# Altium footprint library ip_phone.PcbLib: 69 footprints (part 3 of 5)
Each footprint in its own frame and in the unit in brackets; x right, y up, seen from the top. Pads: shape width x height; smd on the part's side, far side on the other; paste and mask are expansions set on the pad; w line width, h text height; cw(c..) or ccw(c..) is an arc to the next point about the centre after c.
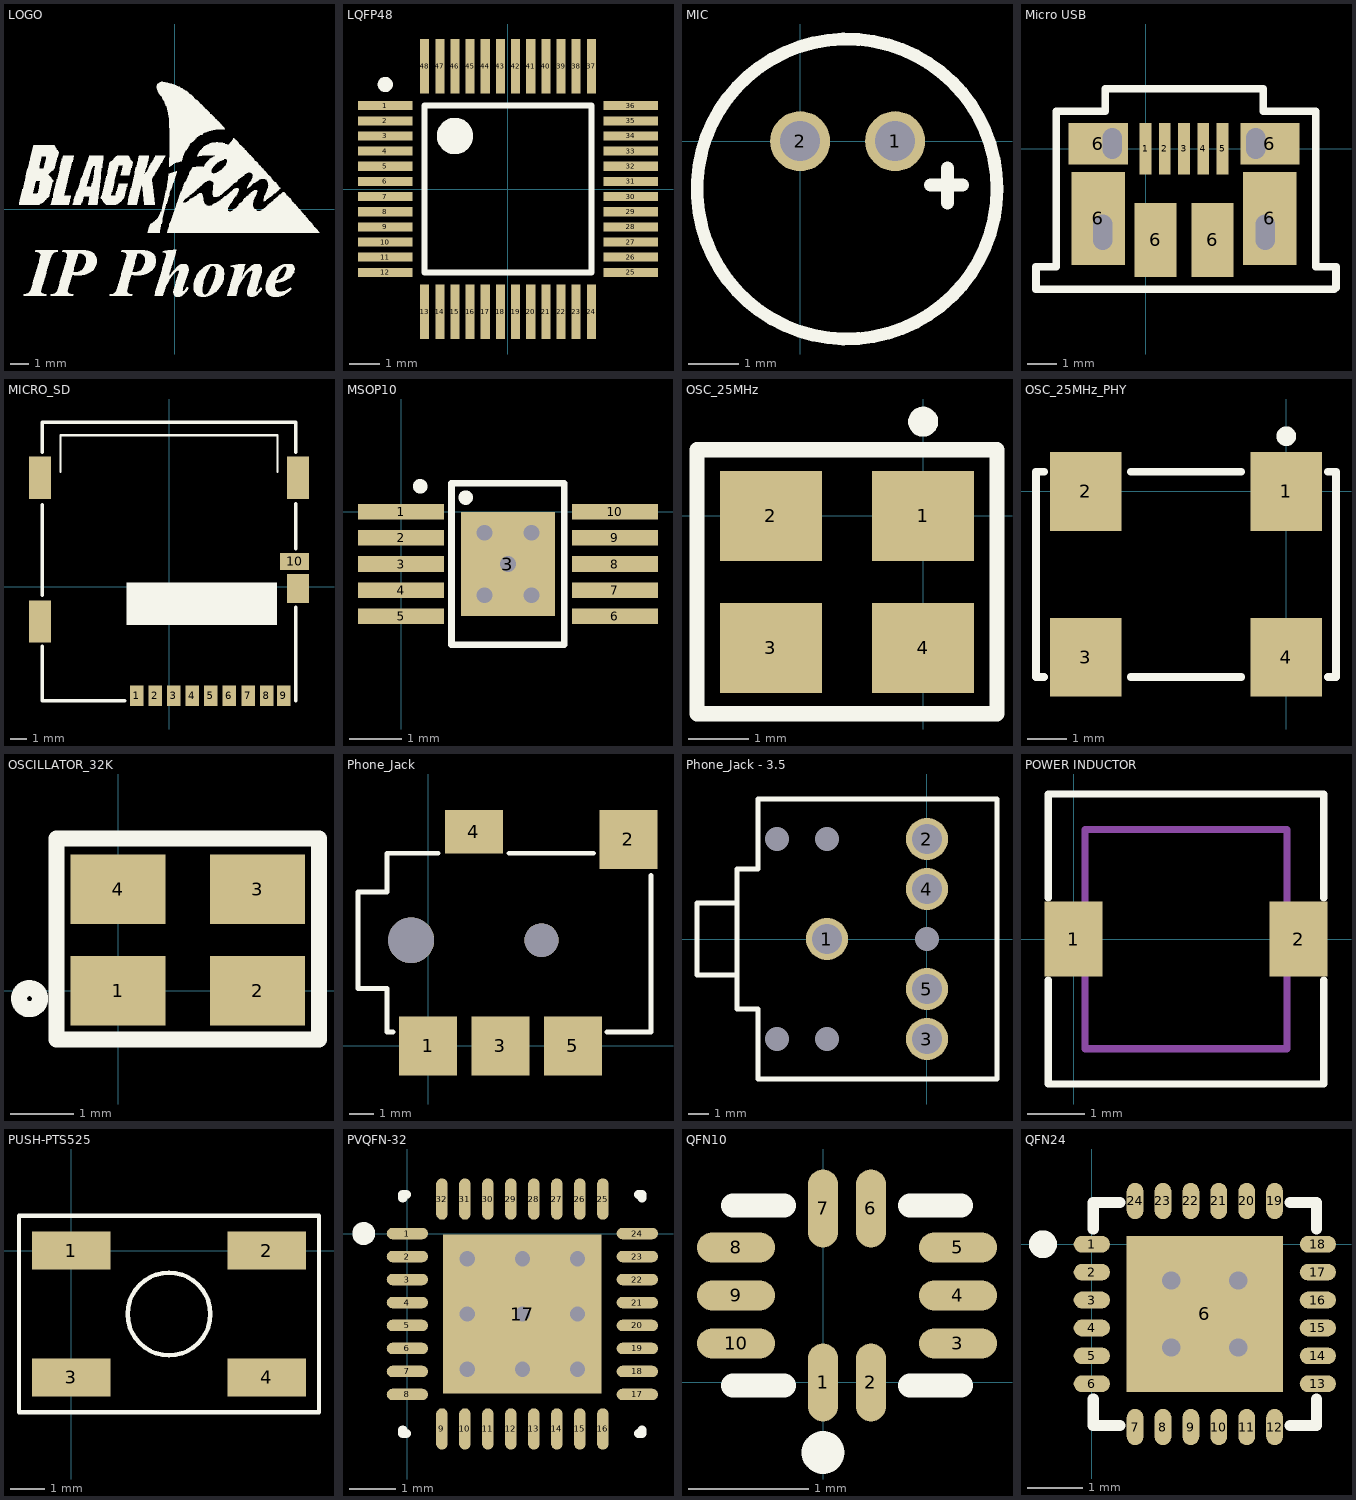
[diagram p2: the footprints below, top view; thin cyan lines are the x and y axes]

## LOGO [mm]
Top Overlay:
  drawing of 2604 lines, arcs and shapes, not listed

## LQFP48 [mm]
height 1.6
pads (48):
  rect 1.8x0.3 smd: 1(-4.05,2.75) 2(-4.05,2.25) 3(-4.05,1.75) 4(-4.05,1.25) 5(-4.05,0.75) 6(-4.05,0.25) 7(-4.05,-0.25) 8(-4.05,-0.75) 9(-4.05,-1.25) 10(-4.05,-1.75) 11(-4.05,-2.25) 12(-4.05,-2.75) 25(4.05,-2.75) 26(4.05,-2.25) 27(4.05,-1.75) 28(4.05,-1.25) 29(4.05,-0.75) 30(4.05,-0.25) 31(4.05,0.25) 32(4.05,0.75) 33(4.05,1.25) 34(4.05,1.75) 35(4.05,2.25) 36(4.05,2.75)
  rect 0.3x1.8 smd: 13(-2.75,-4.05) 14(-2.25,-4.05) 15(-1.75,-4.05) 16(-1.25,-4.05) 17(-0.75,-4.05) 18(-0.25,-4.05) 19(0.25,-4.05) 20(0.75,-4.05) 21(1.25,-4.05) 22(1.75,-4.05) 23(2.25,-4.05) 24(2.75,-4.05) 37(2.75,4.05) 38(2.25,4.05) 39(1.75,4.05) 40(1.25,4.05) 41(0.75,4.05) 42(0.25,4.05) 43(-0.25,4.05) 44(-0.75,4.05) 45(-1.25,4.05) 46(-1.75,4.05) 47(-2.25,4.05) 48(-2.75,4.05)
Top Overlay:
  circle w0.25: c-4.05,3.45 r0.125
  circle w0.6: c-1.75,1.75 r0.3
  lines w0.2: -2.75,-2.75 -2.75,2.75 2.75,2.75 2.75,-2.75 -2.75,-2.75

## MIC [mm]
pads (2):
  round 1.2 hole 0.8: 1(1.9,0) 2(0,0)
Top Overlay:
  circle w0.254: c0.937,-0.955 r3
  lines w0.254: 2.609,-0.874 3.246,-0.874 ; 2.949,-1.237 2.949,-0.533

## Micro USB [mm]
pads (43):
  rect 0.4x1.75 smd: 1(0,0) 2(0.65,0) 3(1.3,0) 4(1.95,0) 5(2.6,0)
  rect 1.8x3.15 smd: 6(-1.6,-2.35) 6(4.2,-2.35)
  rect 2x1.4 smd: 6(-1.6,0.175) 6(4.2,0.175)
  round 0 hole 0.66: 6(-1.45,-3.095) 6(-1.45,-2.95) 6(-1.45,-2.9) 6(-1.45,-2.9) 6(-1.45,-2.85) 6(-1.45,-2.8) 6(-1.45,-2.75) 6(-1.45,-2.7) 6(-1.45,-2.65) 6(-1.45,-2.555) 6(-1.125,-0.02) 6(-1.125,0.08) 6(-1.125,0.175) 6(-1.125,0.2) 6(-1.125,0.272) 6(-1.125,0.37) 6(3.725,-0.02) 6(3.725,0.08) 6(3.725,0.175) 6(3.725,0.175) 6(3.725,0.25) 6(3.725,0.37) 6(4.05,-3.095) 6(4.05,-3) 6(4.05,-2.9) 6(4.05,-2.85) 6(4.05,-2.8) 6(4.05,-2.75) 6(4.05,-2.7) 6(4.05,-2.65) 6(4.05,-2.6) 6(4.05,-2.555)
  rect 1.425x2.5 smd: 6(0.337,-3.075) 6(2.262,-3.075)
Top Overlay:
  lines w0.254: -3.7,-4.746 6.38,-4.746 6.434,-4.692 6.434,-3.984 5.752,-3.984 5.752,1.27 3.974,1.27 3.974,2.032 -1.36,2.032 -1.36,1.27 -3.018,1.27 -3.018,-3.984 -3.7,-3.984 -3.7,-4.746
3D body: height 2.97, standoff 0.03, extent -2.695,-4.287 5.285,1.143

## MICRO_SD [mm]
pads (14):
  rect 0.8x1.2 smd: 1(-1.92,-6.45) 2(-0.82,-6.45) 3(0.28,-6.45) 4(1.38,-6.45) 5(2.48,-6.45) 6(3.58,-6.45) 7(4.68,-6.45) 8(5.78,-6.45) 9(6.78,-6.45)
  rect 1.7x1 smd: 10(7.43,1.5)
  rect 1.3x2.5 smd: ""(-7.63,-2.05) ""(-7.63,6.45) ""(7.63,6.45)
  rect 1.3x1.7 smd: ""(7.63,-0.1)
Top Overlay:
  rectangle: -2.515,-2.261 6.401,0.254
  lines w0.127: -6.415,6.796 -6.415,8.971 6.415,8.971 6.415,6.796
  lines w0.2: -7.5,-3.509 -7.5,-6.75 -2.609,-6.75 ; -7.5,-0.512 -7.5,4.873 ; -7.5,7.972 -7.5,9.75 7.5,9.75 7.5,7.972 ; 7.5,-6.75 7.5,-1.197 ; 7.5,2.257 7.5,4.924

## MSOP10 [mm] "TSSOP, 10-Leads, Body 3,1x3,1mm (max), Pitch 0,50mm, IPC Medium Density"
height 1.1
pads (11):
  rect 1.65x0.3 smd: 1(0,0) 2(0,-0.5) 3(0,-1) 4(0,-1.5) 5(0,-2) 6(4.1,-2) 7(4.1,-1.5) 8(4.1,-1) 9(4.1,-0.5) 10(4.1,0)
  rect 1.8x2 smd: 3(2.05,-1)
via 2.5,-1.6 diameter 0.45 hole 0.3
via 1.6,-1.6 diameter 0.45 hole 0.3
via 2.5,-0.4 diameter 0.45 hole 0.3
via 2.05,-1 diameter 0.45 hole 0.3
via 1.6,-0.4 diameter 0.45 hole 0.3
Top Overlay:
  circle w0.254: c0.367,0.49 r0.012
  circle w0.254: c1.238,0.274 r0.012
  lines w0.127: 0.967,-2.55 0.967,0.55 3.13,0.55 3.13,-2.55 0.967,-2.55

## OSC_25MHz [mm]
height 1
pads (4):
  rect 1.7x1.5 smd: 1(0,0) 2(-2.54,0) 3(-2.54,-2.2) 4(0,-2.2)
Top Overlay:
  circle w0.25: c0,1.567 r0.125
  lines w0.254: -3.77,-3.3 -3.77,-1.1 -3.77,1.1 1.23,1.1 1.23,-1.1 1.23,-3.3 -3.77,-3.3

## OSC_25MHz_PHY [mm]
height 1
pads (4):
  rect 1.8x2 smd: 1(0,0) 2(-5.08,0) 3(-5.08,-4.2) 4(0,-4.2)
Top Overlay:
  circle w0.25: c0,1.398 r0.125
  lines w0.2: -6.14,-4.7 -6.34,-4.7 -6.34,0.5 -6.14,0.5 ; -3.94,-4.7 -1.14,-4.7 ; -3.94,0.5 -1.14,0.5 ; 1.06,-4.7 1.26,-4.7 1.26,0.5 1.06,0.5

## OSCILLATOR_32K [mm]
pads (4):
  rect 1.5x1.1 smd: 1(0,0) 2(2.2,0) 3(2.2,1.6) 4(0,1.6)
Top Overlay:
  circle w0.254: c-1.396,-0.124 r0.166
  lines w0.254: -0.973,-0.767 -0.973,2.398 3.167,2.398 3.167,-0.767 -0.973,-0.767

## Phone_Jack [mm] "Phone_Jack"
pads (7):
  rect 2.4x2.45 smd: 1(0,0) 2(8.3,8.55) 3(3,0) 5(6,0)
  rect 2.4x1.8 smd: 4(1.9,8.875)
  round 1.9 hole 1.9: ""(-0.7,4.375)
  round 1.4 hole 1.4: ""(4.7,4.375)
Top Overlay:
  lines w0.2: -1.448,0.575 -1.7,0.575 -1.7,2.375 -2.9,2.375 -2.9,6.375 -1.7,6.375 -1.7,7.975 0.427,7.975 ; 3.348,7.975 6.853,7.975 ; 7.417,0.575 9.241,0.575 9.241,7.067

## Phone_Jack - 3.5 [mm]
height 6
pads (10):
  round 2.1 hole 1.5: 1(-5,0) 2(0,5) 3(0,-5) 4(0,2.5) 5(0,-2.5)
  round 0 hole 1.2: ""(-7.5,-5) ""(-7.5,5) ""(-5,-5) ""(-5,5) ""(0,0)
Top Overlay:
  lines w0.254: -9.5,-1.8 -11.5,-1.8 -11.5,1.8 -9.5,1.8 ; -9.5,-3.5 -9.5,3.5 -8.452,3.5 -8.452,7 0,7 3.5,7 3.5,-7 0,-7 -8.452,-7 -8.452,-3.5 -9.5,-3.5

## POWER INDUCTOR [mm]
pads (2):
  rect 1x1.3 smd: 1(0,0) 2(3.9,0)
Top Overlay:
  lines w0.127: -0.439,-0.713 -0.439,-2.513 4.337,-2.513 4.337,-0.713 ; -0.439,0.715 -0.439,2.515 4.337,2.515 4.337,0.715
Mechanical 13:
  lines w0.127: 0.2,-1.9 0.2,1.9 3.7,1.9 3.7,-1.9 0.2,-1.9
3D body: height 1.2, standoff 0, extent 0.2,-1.9 3.7,1.9

## PUSH-PTS525 [mm]
pads (4):
  rect 2.3x1.1 smd: 1(0,0) 2(5.7,0) 3(0,-3.7) 4(5.7,-3.7)
Top Overlay:
  circle w0.127: c2.85,-1.85 r1.205
  lines w0.127: -1.524,-4.716 7.224,-4.716 7.224,1.016 -1.524,1.016 -1.524,-4.716

## PVQFN-32 [mm] "QFN, 32-Leads, Body 5.2x5.2mm (max), Pitch 0.50mm, IPC Medium Density"
height 1
pads (33):
  oval 0.9x0.25 smd: 1(0,0) 2(0,-0.5) 3(0,-1) 4(0,-1.5) 5(0,-2) 6(0,-2.5) 7(0,-3) 8(0,-3.5) 17(5,-3.5) 18(5,-3) 19(5,-2.5) 20(5,-2) 21(5,-1.5) 22(5,-1) 23(5,-0.5) 24(5,0)
  oval 0.25x0.9 smd: 9(0.75,-4.25) 10(1.25,-4.25) 11(1.75,-4.25) 12(2.25,-4.25) 13(2.75,-4.25) 14(3.25,-4.25) 15(3.75,-4.25) 16(4.25,-4.25) 25(4.25,0.75) 26(3.75,0.75) 27(3.25,0.75) 28(2.75,0.75) 29(2.25,0.75) 30(1.75,0.75) 31(1.25,0.75) 32(0.75,0.75)
  rect 3.45x3.45 smd: 17(2.5,-1.75)
via 1.3,-0.55 diameter 0.66 hole 0.33
via 2.5,-0.55 diameter 0.66 hole 0.33
via 3.7,-0.55 diameter 0.66 hole 0.33
via 1.3,-1.75 diameter 0.66 hole 0.33
via 2.5,-1.75 diameter 0.66 hole 0.33
via 3.7,-1.75 diameter 0.66 hole 0.33
via 1.3,-2.95 diameter 0.66 hole 0.33
via 2.5,-2.95 diameter 0.66 hole 0.33
via 3.7,-2.95 diameter 0.66 hole 0.33
Top Overlay:
  circle w0.25: c-0.95,0 r0.125
  lines w0.2: -0.1,-4.275 -0.1,-4.35 -0.025,-4.35 ; -0.1,0.775 -0.1,0.85 -0.025,0.85 ; 5.025,-4.35 5.1,-4.35 5.1,-4.275 ; 5.025,0.85 5.1,0.85 5.1,0.775
3D body: height 1, standoff 0.05, extent -0.075,-4.325 5.075,0.825

## QFN10 [mm] "QFN, 10-Leads, Body 1,5x1,9mm (max), Pitch 0,40mm, IPC Medium Density"
height 0.6
pads (10):
  oval 0.25x0.65 smd: 1(0,0) 2(0.4,0) 6(0.4,1.45) 7(0,1.45)
  oval 0.65x0.25 smd: 3(1.125,0.325) 4(1.125,0.725) 5(1.125,1.125) 8(-0.725,1.125) 9(-0.725,0.725) 10(-0.725,0.325)
Top Overlay:
  circle w0.254: c0,-0.584 r0.051
  lines w0.2: -0.75,-0.025 -0.325,-0.025 ; -0.75,1.475 -0.325,1.475 ; 0.725,-0.025 1.15,-0.025 ; 0.725,1.475 1.15,1.475

## QFN24 [mm] "WM8940"
height 1
pads (25):
  oval 0.65x0.3 smd: 1(0,0) 2(0,-0.5) 3(0,-1) 4(0,-1.5) 5(0,-2) 6(0,-2.5) 13(4.05,-2.5) 14(4.05,-2) 15(4.05,-1.5) 16(4.05,-1) 17(4.05,-0.5) 18(4.05,0)
  rect 2.8x2.8 smd: 6(2.025,-1.25)
  oval 0.3x0.65 smd: 7(0.775,-3.275) 8(1.275,-3.275) 9(1.775,-3.275) 10(2.275,-3.275) 11(2.775,-3.275) 12(3.275,-3.275) 19(3.275,0.775) 20(2.775,0.775) 21(2.275,0.775) 22(1.775,0.775) 23(1.275,0.775) 24(0.775,0.775)
via 2.625,-1.85 diameter 0.66 hole 0.33
via 1.425,-1.85 diameter 0.66 hole 0.33
via 2.625,-0.65 diameter 0.66 hole 0.33
via 1.425,-0.65 diameter 0.66 hole 0.33
Top Overlay:
  circle w0.25: c-0.875,0 r0.125
  lines w0.2: 0.025,-2.775 0.025,-3.25 0.5,-3.25 ; 0.025,0.275 0.025,0.75 0.5,0.75 ; 3.55,-3.25 4.025,-3.25 4.025,-2.775 ; 3.55,0.75 4.025,0.75 4.025,0.275